# EAGLE library part 79109-46_S (library con-molex-milli-grid)
RECEPTACAL
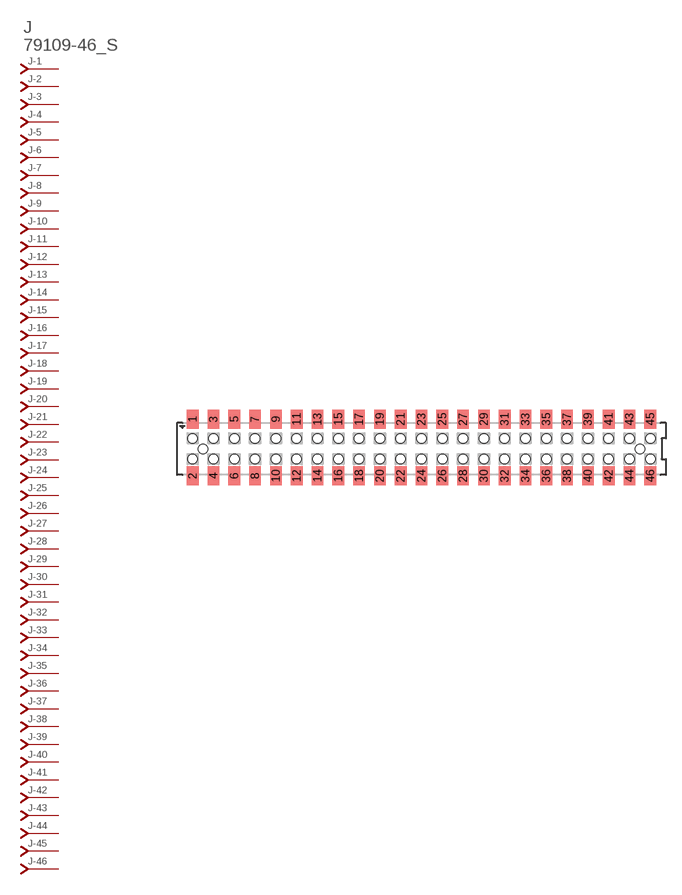
[diagram p279: symbol with the pads of 79109-46; footprint 79109-46]

Designator prefix J; gates -1=J-NV -2=J-N -3=J-N -4=J-N -5=J-N -6=J-N -7=J-N -8=J-N -9=J-N -10=J-N -11=J-N -12=J-N -13=J-N -14=J-N -15=J-N -16=J-N -17=J-N -18=J-N -19=J-N -20=J-N -21=J-N -22=J-N -23=J-N -24=J-N -25=J-N -26=J-N -27=J-N -28=J-N -29=J-N -30=J-N -31=J-N -32=J-N -33=J-N -34=J-N -35=J-N -36=J-N -37=J-N -38=J-N -39=J-N -40=J-N -41=J-N -42=J-N -43=J-N -44=J-N -45=J-N -46=J-N

## 79109-46_S  [79109-46]
1  -1:J  pas
2  -2:J  pas
3  -3:J  pas
4  -4:J  pas
5  -5:J  pas
6  -6:J  pas
7  -7:J  pas
8  -8:J  pas
9  -9:J  pas
10  -10:J  pas
11  -11:J  pas
12  -12:J  pas
13  -13:J  pas
14  -14:J  pas
15  -15:J  pas
16  -16:J  pas
17  -17:J  pas
18  -18:J  pas
19  -19:J  pas
20  -20:J  pas
21  -21:J  pas
22  -22:J  pas
23  -23:J  pas
24  -24:J  pas
25  -25:J  pas
26  -26:J  pas
27  -27:J  pas
28  -28:J  pas
29  -29:J  pas
30  -30:J  pas
31  -31:J  pas
32  -32:J  pas
33  -33:J  pas
34  -34:J  pas
35  -35:J  pas
36  -36:J  pas
37  -37:J  pas
38  -38:J  pas
39  -39:J  pas
40  -40:J  pas
41  -41:J  pas
42  -42:J  pas
43  -43:J  pas
44  -44:J  pas
45  -45:J  pas
46  -46:J  pas

## Footprint 79109-46 (pad centres in mm)
RECEPTACAL SMD Dual Row, Vertical, Pass-Thru
smd 1.12 x 1.83: 1 -22,2.85; 2 -22,-2.6; 3 -20,2.85; 4 -20,-2.6; 5 -18,2.85; 6 -18,-2.6; 7 -16,2.85; 8 -16,-2.6; 9 -14,2.85; 10 -14,-2.6; 11 -12,2.85; 12 -12,-2.6; 13 -10,2.85; 14 -10,-2.6; 15 -8,2.85; 16 -8,-2.6; 17 -6,2.85; 18 -6,-2.6; 19 -4,2.85; 20 -4,-2.6; 21 -2,2.85; 22 -2,-2.6; 23 0,2.85; 24 0,-2.6; 25 2,2.85; 26 2,-2.6; 27 4,2.85; 28 4,-2.6; 29 6,2.85; 30 6,-2.6; 31 8,2.85; 32 8,-2.6; 33 10,2.85; 34 10,-2.6; 35 12,2.85; 36 12,-2.6; 37 14,2.85; 38 14,-2.6; 39 16,2.85; 40 16,-2.6; 41 18,2.85; 42 18,-2.6; 43 20,2.85; 44 20,-2.6; 45 22,2.85; 46 22,-2.6
hole 0.914 at -21,0
hole 0.914 at -22,1
hole 0.914 at -22,-1
hole 0.914 at -20,-1
hole 0.914 at -20,1
hole 0.914 at -18,-1
hole 0.914 at -18,1
hole 0.914 at -16,1
hole 0.914 at -16,-1
hole 0.914 at -14,1
hole 0.914 at -14,-1
hole 0.914 at -12,1
hole 0.914 at -12,-1
hole 0.914 at -10,1
hole 0.914 at -10,-1
hole 0.914 at -8,-1
hole 0.914 at -8,1
hole 0.914 at -6,1
hole 0.914 at -6,-1
hole 0.914 at -4,1
hole 0.914 at -4,-1
hole 0.914 at -2,1
hole 0.914 at -2,-1
hole 0.914 at 0,-1
hole 0.914 at 0,1
hole 0.914 at 2,1
hole 0.914 at 4,1
hole 0.914 at 6,1
hole 0.914 at 2,-1
hole 0.914 at 4,-1
hole 0.914 at 6,-1
hole 0.914 at 8,-1
hole 0.914 at 10,-1
hole 0.914 at 12,-1
hole 0.914 at 14,-1
hole 0.914 at 16,-1
hole 0.914 at 8,1
hole 0.914 at 10,1
hole 0.914 at 12,1
hole 0.914 at 14,1
hole 0.914 at 16,1
hole 0.914 at 18,-1
hole 0.914 at 20,-1
hole 0.914 at 18,1
hole 0.914 at 20,1
hole 0.914 at 22,1
hole 0.914 at 22,-1
hole 0.914 at 21,0